# EAGLE library part ESP32-WROOM-32E (library ESP32-WROOM-32E)
ESP32-D0WD-V3 embedded, Xtensa dual-core 32-bit LX6 microprocessor, up to 240 MHz Source: Datasheet <https://www.espressif.com/sites/default/files/documentation/esp32-wroom-32e_esp32-wroom-32ue_datasheet_en.pdf>
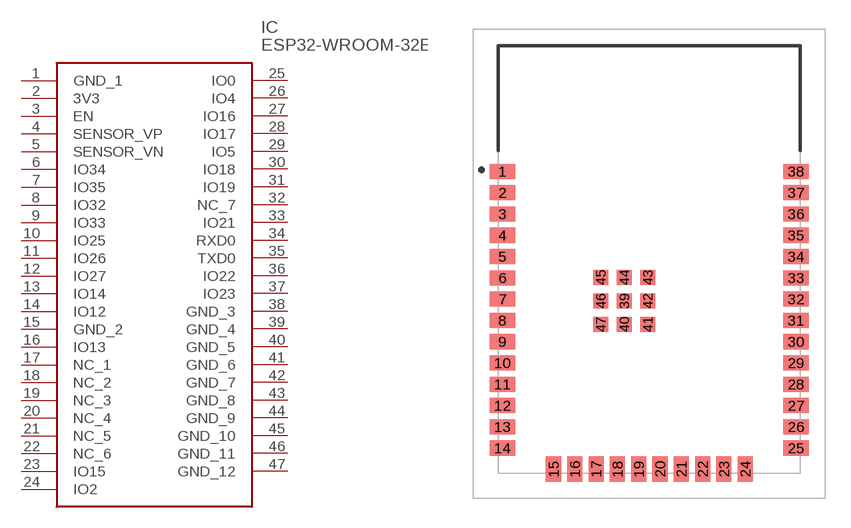
[diagram p0: symbol with the pads of ESP32WROOM32E; footprint ESP32WROOM32E]

Designator prefix IC

## ESP32-WROOM-32E (Description: ESP32-D0WD-V3 embedded, Xtensa dual-core 32-bit LX6 microprocessor, up to 240 MHz; Height: 3.25mm; Manufacturer_Name: Espressif Systems; Manufacturer_Part_Number: ESP32-WROOM-32E)  [ESP32WROOM32E]
1  GND_1
2  3V3
3  EN
4  SENSOR_VP
5  SENSOR_VN
6  IO34
7  IO35
8  IO32
9  IO33
10  IO25
11  IO26
12  IO27
13  IO14
14  IO12
15  GND_2
16  IO13
17  NC_1
18  NC_2
19  NC_3
20  NC_4
21  NC_5
22  NC_6
23  IO15
24  IO2
25  IO0
26  IO4
27  IO16
28  IO17
29  IO5
30  IO18
31  IO19
32  NC_7
33  IO21
34  RXD0
35  TXD0
36  IO22
37  IO23
38  GND_3
39  GND_4
40  GND_5
41  GND_6
42  GND_7
43  GND_8
44  GND_9
45  GND_10
46  GND_11
47  GND_12

## Footprint ESP32WROOM32E (pad centres in mm)
ESP32-WROOM-32E-1
smd 1.5 x 0.9: 1 0.25,18.01; 2 0.25,16.74; 3 0.25,15.47; 4 0.25,14.2; 5 0.25,12.93; 6 0.25,11.66; 7 0.25,10.39; 8 0.25,9.12; 9 0.25,7.85; 10 0.25,6.58; 11 0.25,5.31; 12 0.25,4.04; 13 0.25,2.77; 14 0.25,1.5; 25 17.75,1.5; 26 17.75,2.77; 27 17.75,4.04; 28 17.75,5.31; 29 17.75,6.58; 30 17.75,7.85; 31 17.75,9.12; 32 17.75,10.39; 33 17.75,11.66; 34 17.75,12.93; 35 17.75,14.2; 36 17.75,15.47; 37 17.75,16.74; 38 17.75,18.01
smd 0.9 x 1.5: 15 3.29,0.25; 16 4.56,0.25; 17 5.83,0.25; 18 7.1,0.25; 19 8.37,0.25; 20 9.64,0.25; 21 10.91,0.25; 22 12.18,0.25; 23 13.45,0.25; 24 14.72,0.25
smd 0.9 x 0.9: 39 7.5,10.29; 40 7.5,8.89; 41 8.9,8.89; 42 8.9,10.29; 43 8.9,11.69; 44 7.5,11.69; 45 6.1,11.69; 46 6.1,10.29; 47 6.1,8.89